# EAGLE library part DEVU (library perArduino)
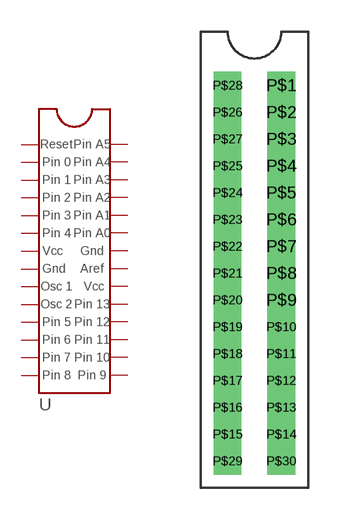
[diagram p0: symbol with the pads of PACU; footprint PACU]

Designator prefix -

## DEVU  [PACU]
P$1  P$1
P$2  PIN1
P$3  PIN2
P$4  PIN3
P$5  PIN4
P$6  PIN5
P$7  PIN6
P$8  PIN7
P$9  PIN8
P$10  PIN9
P$11  PIN10
P$12  PIN11
P$13  PIN12
P$14  PIN13
P$15  PIN14
P$16  PIN15
P$17  PIN16
P$18  PIN17
P$19  PIN18
P$20  PIN19
P$21  PIN20
P$22  PIN21
P$23  PIN22
P$24  PIN23
P$25  PIN24
P$26  PIN25
P$27  PIN26
P$28  PIN27

## Footprint PACU (pad centres in mm)
drill 0.8 square: P$1 1.27,5.08; P$2 1.27,3.81; P$3 1.27,2.54; P$4 1.27,1.27; P$5 1.27,0; P$6 1.27,-1.27; P$7 1.27,-2.54; P$8 1.27,-3.81; P$9 1.27,-5.08; P$10 1.27,-6.35; P$11 1.27,-7.62; P$12 1.27,-8.89; P$13 1.27,-10.16; P$14 1.27,-11.43; P$15 -1.27,-11.43; P$16 -1.27,-10.16; P$17 -1.27,-8.89; P$18 -1.27,-7.62; P$19 -1.27,-6.35; P$20 -1.27,-5.08; P$21 -1.27,-3.81; P$22 -1.27,-2.54; P$23 -1.27,-1.27; P$24 -1.27,0; P$25 -1.27,1.27; P$26 -1.27,3.81; P$27 -1.27,2.54; P$28 -1.27,5.08; P$29 -1.27,-12.7; P$30 1.27,-12.7